# Altium schematic symbol library CN MOLEX 4365002XX.Schlib: 1 symbol
Pins are listed as number, name and electrical type; pins without a type are passive.

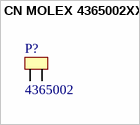
[diagram p0: symbol CN MOLEX 4365002XX]

## CN MOLEX 4365002XX
designator P?, comment 4365002
MOLEX MICROFIT 2CKT RIGHT THRU
pins: 1, 2